# Altium footprint library XL6009.PcbLib: 1 footprints
Each footprint in its own frame and in the unit in brackets; x right, y up, seen from the top. Pads: shape width x height; smd on the part's side, far side on the other; paste and mask are expansions set on the pad; w line width, h text height; cw(c..) or ccw(c..) is an arc to the next point about the centre after c.
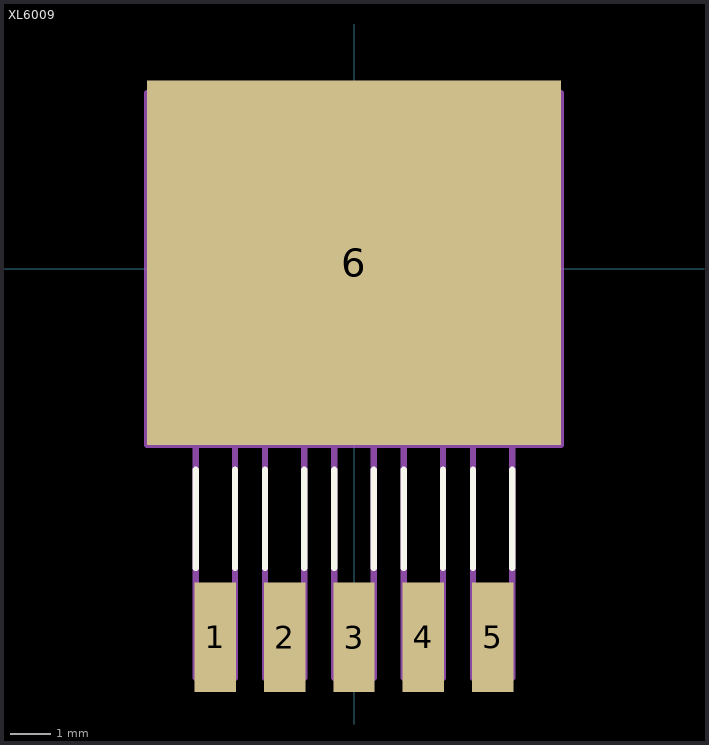
[diagram p0: the footprint, top view; thin cyan lines are the x and y axes]

## XL6009 [mil]
pads (6):
  rect 40x106 smd: 1(-134,-356) 2(-67,-356) 3(0,-356) 4(67,-356) 5(134,-356)
  rect 400x352 smd: 6(0,6)
Top Overlay:
  lines w6: -153,-289 -153,-194 ; -115,-289 -115,-194 ; -86,-289 -86,-194 ; -48,-289 -48,-194 ; -19,-289 -19,-194 ; 19,-289 19,-194 ; 48,-289 48,-194 ; 86,-289 86,-194 ; 115,-289 115,-194 ; 153,-289 153,-194
Mechanical 4:
  lines w6: -200,-170 -200,170 ; -200,-170 200,-170 ; -200,-170 -200,170 ; -200,-170 200,-170 ; -200,170 200,170 ; -200,170 200,170 ; -153,-395 -115,-395 ; -153,-395 -153,-170 ; -153,-395 -115,-395 ; -153,-395 -153,-170 ; -153,-170 -115,-170 ; -153,-170 -115,-170 ; -115,-395 -115,-170 ; -115,-395 -115,-170 ; -86,-395 -48,-395 ; -86,-395 -86,-170 ; -86,-395 -48,-395 ; -86,-395 -86,-170 ; -86,-170 -48,-170 ; -86,-170 -48,-170 ; -48,-395 -48,-170 ; -48,-395 -48,-170 ; -19,-395 19,-395 ; -19,-395 -19,-170 ; -19,-395 19,-395 ; -19,-395 -19,-170 ; -19,-170 19,-170 ; -19,-170 19,-170 ; 19,-395 19,-170 ; 19,-395 19,-170 ; 48,-395 86,-395 ; 48,-395 48,-170 ; 48,-395 86,-395 ; 48,-395 48,-170 ; 48,-170 86,-170 ; 48,-170 86,-170 ; 86,-395 86,-170 ; 86,-395 86,-170 ; 115,-395 153,-395 ; 115,-395 115,-170 ; 115,-395 153,-395 ; 115,-395 115,-170 ; 115,-170 153,-170 ; 115,-170 153,-170 ; 153,-395 153,-170 ; 153,-395 153,-170 ; 200,-170 200,170 ; 200,-170 200,170
3D body "LM2596SX-12--3DModel-STEP-56544.STEP": height 183, standoff -6, extent -200,-384.99 200,180.01